# Altium schematic symbol library C0402C561K5RAC.SchLib: 1 symbol
Pins are listed as number, name and electrical type; pins without a type are passive.

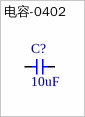
[diagram p0: symbol 电容-0402]

## 电容-0402
designator C?, comment 10uF
Capacitor; Value: 0.1u
footprint CAP_0402
pins: 1, 2